# Altium footprint library SparkFun-DigitalIC.PCBLIB: 112 footprints (part 3 of 7)
Each footprint in its own frame and in the unit in brackets; x right, y up, seen from the top. Pads: shape width x height; smd on the part's side, far side on the other; paste and mask are expansions set on the pad; w line width, h text height; cw(c..) or ccw(c..) is an arc to the next point about the centre after c.
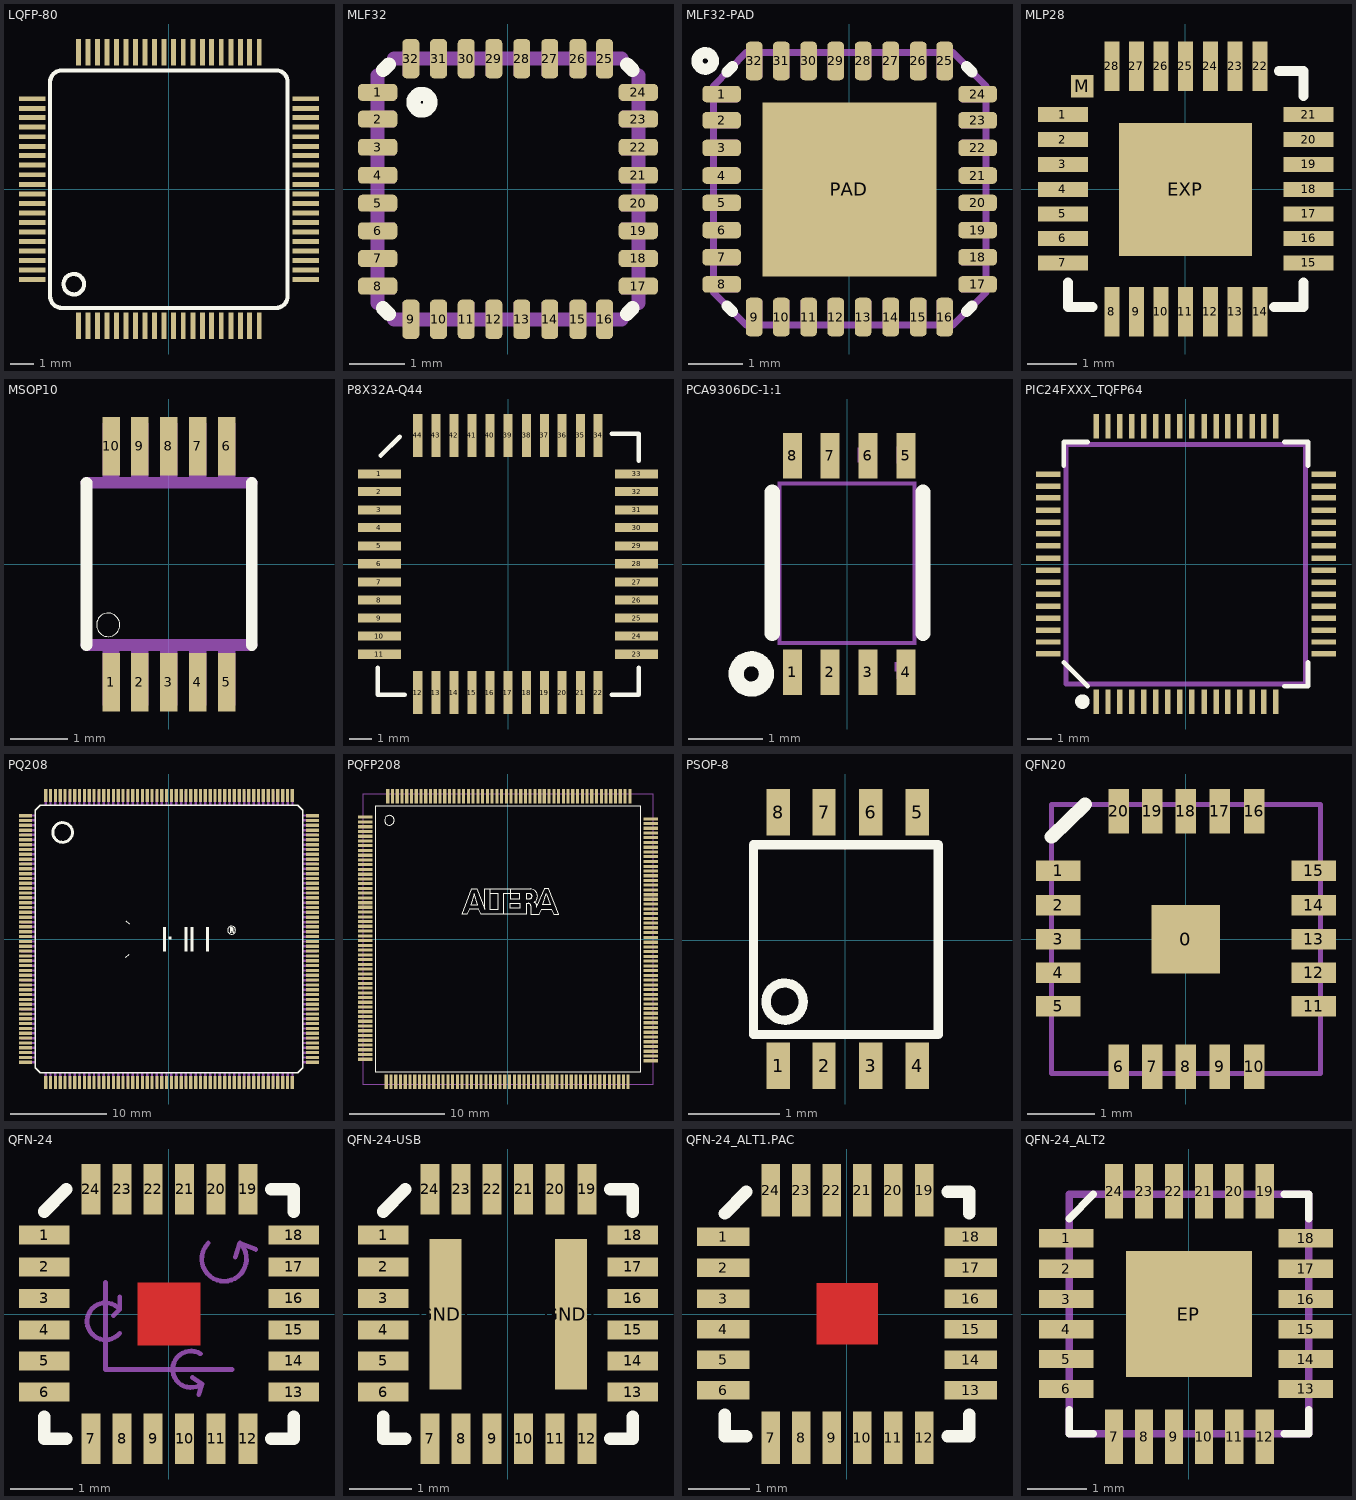
[diagram p2: the footprints below, top view; thin cyan lines are the x and y axes]

## LQFP-80 [mil]
pads (80):
  rect 8x44 smd: 1(-149.61,-226.38) 2(-133.86,-226.38) 3(-118.11,-226.38) 4(-102.36,-226.38) 5(-86.61,-226.38) 6(-70.87,-226.38) 7(-55.12,-226.38) 8(-39.37,-226.38) 9(-23.62,-226.38) 10(-7.87,-226.38) 11(8,-226.38) 12(24,-226.38) 13(40,-226.38) 14(56,-226.38) 15(71,-226.38) 16(87,-226.38) 17(103,-226.38) 18(119,-226.38) 19(134,-226.38) 20(150,-226.38) 41(150,227) 42(134,227) 43(119,227) 44(103,227) 45(87,227) 46(71,227) 47(56,227) 48(40,227) 49(24,227) 50(8,227) 51(-7.87,227) 52(-23.62,227) 53(-39.37,227) 54(-55.12,227) 55(-70.87,227) 56(-86.61,227) 57(-102.36,227) 58(-118.11,227) 59(-133.86,227) 60(-149.61,227)
  rect 44x8 smd: 21(227,-149.61) 22(227,-133.86) 23(227,-118.11) 24(227,-102.36) 25(227,-86.61) 26(227,-70.87) 27(227,-55.12) 28(227,-39.37) 29(227,-23.62) 30(227,-7.87) 31(227,8) 32(227,24) 33(227,40) 34(227,56) 35(227,71) 36(227,87) 37(227,103) 38(227,119) 39(227,134) 40(227,150) 61(-226.38,150) 62(-226.38,134) 63(-226.38,119) 64(-226.38,103) 65(-226.38,87) 66(-226.38,71) 67(-226.38,56) 68(-226.38,40) 69(-226.38,24) 70(-226.38,8) 71(-226.38,-7.87) 72(-226.38,-23.62) 73(-226.38,-39.37) 74(-226.38,-55.12) 75(-226.38,-70.87) 76(-226.38,-86.61) 77(-226.38,-102.36) 78(-226.38,-118.11) 79(-226.38,-133.86) 80(-226.38,-149.61)
Top Overlay:
  circle w7: c-157.48,-157.48 r17
  lines w7: -196.85,-177.17 -196.85,178 cw(c-177.51,177.66) -177.17,197 178,197 cw(c178,178) 197,178 197,-177.17 cw(c177.66,-177.51) 178,-196.85 -177.17,-196.85 cw(c-177.17,-177.17) -196.85,-177.17
Mechanical 2:
  text ">Name" at -100,-150 h24.8
Mechanical 4:
  text ">Value" at -50,-150 h24.8
Mechanical 16:
  rectangle: -236.22,5 -212.6,12
  rectangle: -236.22,-11.02 -212.6,-4.72
  rectangle: -236.22,-26.77 -212.6,-20.47
  rectangle: -236.22,-42.52 -212.6,-36.22
  rectangle: -236.22,-58.27 -212.6,-51.97
  rectangle: -236.22,-74.02 -212.6,-67.72
  rectangle: -236.22,-89.76 -212.6,-83.46
  rectangle: -236.22,-105.51 -212.6,-99.21
  rectangle: -236.22,-121.26 -212.6,-114.96
  rectangle: -236.22,-137.01 -212.6,-130.71
  rectangle: -236.22,-152.76 -212.6,-146.46
  rectangle: -236.22,21 -212.6,27
  rectangle: -236.22,37 -212.6,43
  rectangle: -236.22,52 -212.6,59
  rectangle: -236.22,68 -212.6,75
  rectangle: -236.22,84 -212.6,90
  rectangle: -236.22,100 -212.6,106
  rectangle: -236.22,115 -212.6,122
  rectangle: -236.22,131 -212.6,138
  rectangle: -236.22,147 -212.6,153
  region: 5.03,236.97 5.03,213.03 11.03,213.03 11.03,236.97
  region: -10.84,236.84 -10.84,213.16 -4.84,213.16 -4.84,236.84
  region: -26.62,236.81 -26.62,213.19 -20.62,213.19 -20.62,236.81
  region: -42.37,236.81 -42.37,213.19 -36.37,213.19 -36.37,236.81
  region: -58.12,236.81 -58.12,213.19 -52.12,213.19 -52.12,236.81
  region: -73.87,236.81 -73.87,213.19 -67.87,213.19 -67.87,236.81
  region: -89.61,236.81 -89.61,213.19 -83.61,213.19 -83.61,236.81
  region: -105.36,236.81 -105.36,213.19 -99.36,213.19 -99.36,236.81
  region: -121.11,236.81 -121.11,213.19 -115.11,213.19 -115.11,236.81
  region: -136.86,236.81 -136.86,213.19 -130.86,213.19 -130.86,236.81
  region: -152.61,236.81 -152.61,213.19 -146.61,213.19 -146.61,236.81
  region: 21,237 21,213 27,213 27,237
  region: 37,237 37,213 43,213 43,237
  region: 52.5,236.5 52.5,213.5 58.5,213.5 58.5,236.5
  region: 68.5,236.5 68.5,213.5 74.5,213.5 74.5,236.5
  region: 84,237 84,213 90,213 90,237
  region: 100,237 100,213 106,213 106,237
  region: 115.5,236.5 115.5,213.5 121.5,213.5 121.5,236.5
  region: 131.5,236.5 131.5,213.5 137.5,213.5 137.5,236.5
  region: 147,237 147,213 153,213 153,237
  region: 237,-4.72 213,-4.72 213,-11.02 237,-11.02
  region: 237,12 213,12 213,5 237,5
  region: 237,27 213,27 213,21 237,21
  region: 237,43 213,43 213,37 237,37
  region: 237,59 213,59 213,52 237,52
  region: 237,75 213,75 213,68 237,68
  region: 237,90 213,90 213,84 237,84
  region: 237,106 213,106 213,100 237,100
  region: 237,122 213,122 213,115 237,115
  region: 237,138 213,138 213,131 237,131
  region: 237,153 213,153 213,147 237,147
  region: 237,-20.47 213,-20.47 213,-26.77 237,-26.77
  region: 237,-36.22 213,-36.22 213,-42.52 237,-42.52
  region: 237,-51.97 213,-51.97 213,-58.27 237,-58.27
  region: 237,-67.72 213,-67.72 213,-74.02 237,-74.02
  region: 237,-83.46 213,-83.46 213,-89.76 237,-89.76
  region: 237,-99.21 213,-99.21 213,-105.51 237,-105.51
  region: 237,-114.96 213,-114.96 213,-121.26 237,-121.26
  region: 237,-130.71 213,-130.71 213,-137.01 237,-137.01
  region: 237,-146.46 213,-146.46 213,-152.76 237,-152.76
  region: -4.69,-236.25 -4.69,-212.57 -10.99,-212.57 -10.99,-236.25
  region: 11.18,-236.38 11.18,-212.44 4.88,-212.44 4.88,-236.38
  region: 27.15,-236.41 27.15,-212.41 20.85,-212.41 20.85,-236.41
  region: 43.15,-236.41 43.15,-212.41 36.85,-212.41 36.85,-236.41
  region: 58.65,-235.91 58.65,-212.91 52.35,-212.91 52.35,-235.91
  region: 74.65,-235.91 74.65,-212.91 68.35,-212.91 68.35,-235.91
  region: 90.15,-236.41 90.15,-212.41 83.85,-212.41 83.85,-236.41
  region: 106.15,-236.41 106.15,-212.41 99.85,-212.41 99.85,-236.41
  region: 121.65,-235.91 121.65,-212.91 115.35,-212.91 115.35,-235.91
  region: 137.65,-235.91 137.65,-212.91 131.35,-212.91 131.35,-235.91
  region: 153.15,-236.41 153.15,-212.41 146.85,-212.41 146.85,-236.41
  region: -20.47,-236.22 -20.47,-212.6 -26.77,-212.6 -26.77,-236.22
  region: -36.22,-236.22 -36.22,-212.6 -42.52,-212.6 -42.52,-236.22
  region: -51.97,-236.22 -51.97,-212.6 -58.27,-212.6 -58.27,-236.22
  region: -67.72,-236.22 -67.72,-212.6 -74.02,-212.6 -74.02,-236.22
  region: -83.46,-236.22 -83.46,-212.6 -89.76,-212.6 -89.76,-236.22
  region: -99.21,-236.22 -99.21,-212.6 -105.51,-212.6 -105.51,-236.22
  region: -114.96,-236.22 -114.96,-212.6 -121.26,-212.6 -121.26,-236.22
  region: -130.71,-236.22 -130.71,-212.6 -137.01,-212.6 -137.01,-236.22
  region: -146.46,-236.22 -146.46,-212.6 -152.76,-212.6 -152.76,-236.22

## MLF32 [mil]
pads (32):
  rrect50% 28x12 smd: 1(-92.52,69) 2(-92.52,50) 3(-92.52,30) 4(-92.52,10) 5(-92.52,-9.84) 6(-92.52,-29.53) 7(-92.52,-49.21) 8(-92.52,-68.9) 17(93,-68.9) 18(93,-49.21) 19(93,-29.53) 20(93,-9.84) 21(93,10) 22(93,30) 23(93,50) 24(93,69)
  rrect50% 12x28 smd: 9(-68.9,-92.52) 10(-49.21,-92.52) 11(-29.53,-92.52) 12(-9.84,-92.52) 13(10,-92.52) 14(30,-92.52) 15(50,-92.52) 16(69,-92.52) 25(69,93) 26(50,93) 27(30,93) 28(10,93) 29(-9.84,93) 30(-29.53,93) 31(-49.21,93) 32(-68.9,93)
Top Overlay:
  circle w10: c-61.02,62 r6
  lines w10: -88.58,-84.65 -84.65,-88.58 ; -88.58,85 -84.65,89 ; 85,-88.58 89,-84.65 ; 85,89 89,85
Mechanical 2:
  text ">NAME" at -100,125 h77.5
Mechanical 4:
  text ">VALUE" at -100,-175 h77.5
Mechanical 16:
  rectangle: -98.43,63 -80.71,75
  rectangle: -98.43,44 -80.71,56
  rectangle: -98.43,24 -80.71,36
  rectangle: -98.43,4 -80.71,16
  rectangle: -98.43,-15.75 -80.71,-3.94
  rectangle: -98.43,-35.43 -80.71,-23.62
  rectangle: -98.43,-55.12 -80.71,-43.31
  rectangle: -98.43,-74.8 -80.71,-62.99
  rectangle: -74.8,-98.43 -62.99,-80.71
  rectangle: -55.12,-98.43 -43.31,-80.71
  rectangle: -35.43,-98.43 -23.62,-80.71
  rectangle: -15.75,-98.43 -3.94,-80.71
  rectangle: 4,-98.43 16,-80.71
  rectangle: 24,-98.43 36,-80.71
  rectangle: 44,-98.43 56,-80.71
  rectangle: 63,-98.43 75,-80.71
  rectangle: 81,-74.8 99,-62.99
  rectangle: 81,-55.12 99,-43.31
  rectangle: 81,-35.43 99,-23.62
  rectangle: 81,-15.75 99,-3.94
  rectangle: 81,4 99,16
  rectangle: 81,24 99,36
  rectangle: 81,44 99,56
  rectangle: 81,63 99,75
  rectangle: 63,81 75,99
  rectangle: 44,81 56,99
  rectangle: 24,81 36,99
  rectangle: 4,81 16,99
  rectangle: -15.75,81 -3.94,99
  rectangle: -35.43,81 -23.62,99
  rectangle: -55.12,81 -43.31,99
  rectangle: -74.8,81 -62.99,99
  lines w10: -92.52,-80.71 -92.52,81 ; -80.71,-92.52 81,-92.52 ; -80.71,93 81,93 ; 93,-80.71 93,81

## MLF32-PAD [mil]
pads (33):
  rrect50% 28x12 smd: 1(-92.52,69) 2(-92.52,50) 3(-92.52,30) 4(-92.52,10) 5(-92.52,-9.84) 6(-92.52,-29.53) 7(-92.52,-49.21) 8(-92.52,-68.9) 17(93,-68.9) 18(93,-49.21) 19(93,-29.53) 20(93,-9.84) 21(93,10) 22(93,30) 23(93,50) 24(93,69)
  rrect50% 12x28 smd: 9(-68.9,-92.52) 10(-49.21,-92.52) 11(-29.53,-92.52) 12(-9.84,-92.52) 13(10,-92.52) 14(30,-92.52) 15(50,-92.52) 16(69,-92.52) 25(69,93) 26(50,93) 27(30,93) 28(10,93) 29(-9.84,93) 30(-29.53,93) 31(-49.21,93) 32(-68.9,93)
  rect 126x126 smd: PAD(0,0)
Top Overlay:
  circle w8: c-104.33,93 r6
  lines w8: -88.58,-84.65 -84.65,-88.58 ; -88.58,85 -84.65,89 ; 85,-88.58 89,-84.65 ; 85,89 89,85
Top Paste:
  rectangle: -47.24,10 -9.84,48
  rectangle: 10,10 48,48
  rectangle: 10,-47.24 48,-9.84
  rectangle: -47.24,-47.24 -9.84,-9.84
Mechanical 2:
  text ">NAME" at -100,125 h77.5
Mechanical 4:
  text ">VALUE" at -100,-175 h77.5
Mechanical 16:
  rectangle: -98.43,63 -80.71,75
  rectangle: -98.43,44 -80.71,56
  rectangle: -98.43,24 -80.71,36
  rectangle: -98.43,4 -80.71,16
  rectangle: -98.43,-15.75 -80.71,-3.94
  rectangle: -98.43,-35.43 -80.71,-23.62
  rectangle: -98.43,-55.12 -80.71,-43.31
  rectangle: -98.43,-74.8 -80.71,-62.99
  rectangle: -74.8,-98.43 -62.99,-80.71
  rectangle: -55.12,-98.43 -43.31,-80.71
  rectangle: -35.43,-98.43 -23.62,-80.71
  rectangle: -15.75,-98.43 -3.94,-80.71
  rectangle: 4,-98.43 16,-80.71
  rectangle: 24,-98.43 36,-80.71
  rectangle: 44,-98.43 56,-80.71
  rectangle: 63,-98.43 75,-80.71
  rectangle: 81,-74.8 99,-62.99
  rectangle: 81,-55.12 99,-43.31
  rectangle: 81,-35.43 99,-23.62
  rectangle: 81,-15.75 99,-3.94
  rectangle: 81,4 99,16
  rectangle: 81,24 99,36
  rectangle: 81,44 99,56
  rectangle: 81,63 99,75
  rectangle: 63,81 75,99
  rectangle: 44,81 56,99
  rectangle: 24,81 36,99
  rectangle: 4,81 16,99
  rectangle: -15.75,81 -3.94,99
  rectangle: -35.43,81 -23.62,99
  rectangle: -55.12,81 -43.31,99
  rectangle: -74.8,81 -62.99,99
  lines w5: -98.43,-74.8 -74.8,-98.43 75,-98.43 99,-74.8 99,75 75,99 -74.8,99 -98.43,75 -98.43,-74.8

## MLP28 [mil]
pads (30):
  rect 40x12 smd: 1(-98.43,60) 2(-98.43,40) 3(-98.43,20) 4(-98.43,0) 5(-98.43,-19.68) 6(-98.43,-39.37) 7(-98.43,-59.06) 15(99,-59.06) 16(99,-39.37) 17(99,-19.68) 18(99,0) 19(99,20) 20(99,40) 21(99,60)
  rect 12x40 smd: 8(-59.06,-98.43) 9(-39.37,-98.43) 10(-19.68,-98.43) 11(0,-98.43) 12(20,-98.43) 13(40,-98.43) 14(60,-98.43) 22(60,99) 23(40,99) 24(20,99) 25(0,99) 26(-19.68,99) 27(-39.37,99) 28(-59.06,99)
  rect 107x107 smd: EXP(0,0)
  rect 18x18 smd: M(-82.78,83)
Top Overlay:
  lines w8: -94.49,-74.8 -94.49,-94.49 -74.8,-94.49 ; 71,-94.49 95,-94.49 95,-74.8 ; 75,95 95,95 95,75
Top Paste:
  rectangle: -101.57,54 -79.53,65
  rectangle: -19.68,-19.68 20,20
  rectangle: -88.58,77 -76.77,89
  rectangle: -101.57,35 -79.53,45
  rectangle: -101.57,15 -79.53,25
  rectangle: -101.57,-5.12 -79.53,6
  rectangle: -101.57,-24.8 -79.53,-14.57
  rectangle: -101.57,-44.49 -79.53,-34.25
  rectangle: -101.57,-64.17 -79.53,-53.94
  region: 55,102 55,80 65,80 65,102
  region: 35,102 35,80 45,80 45,102
  region: 15,102 15,80 25,80 25,102
  region: -4.51,102.51 -4.51,79.49 5.49,79.49 5.49,102.51
  region: -24.69,102.02 -24.69,79.98 -14.69,79.98 -14.69,102.02
  region: -44.37,102.02 -44.37,79.98 -34.37,79.98 -34.37,102.02
  region: -64.06,102.02 -64.06,79.98 -54.06,79.98 -54.06,102.02
  region: -53.94,-101.57 -53.94,-79.53 -64.17,-79.53 -64.17,-101.57
  region: -34.25,-101.57 -34.25,-79.53 -44.49,-79.53 -44.49,-101.57
  region: -14.57,-101.57 -14.57,-79.53 -24.8,-79.53 -24.8,-101.57
  region: 5.61,-102.06 5.61,-79.04 -4.63,-79.04 -4.63,-102.06
  region: 25.12,-101.55 25.12,-79.55 14.88,-79.55 14.88,-101.55
  region: 45.12,-101.55 45.12,-79.55 34.88,-79.55 34.88,-101.55
  region: 65.12,-101.55 65.12,-79.55 54.88,-79.55 54.88,-101.55
  region: 102,-53.94 80,-53.94 80,-64.17 102,-64.17
  region: 102,-34.25 80,-34.25 80,-44.49 102,-44.49
  region: 102,-14.57 80,-14.57 80,-24.8 102,-24.8
  region: 102,6 80,6 80,-5.12 102,-5.12
  region: 102,25 80,25 80,15 102,15
  region: 102,45 80,45 80,35 102,35
  region: 102,65 80,65 80,54 102,54
Top Solder:
  rectangle: -120.08,52 -78.74,67
  rectangle: -92.62,73 -72.93,93
  rectangle: -120.08,32 -78.74,48
  rectangle: -59.06,-59.06 60,60
  rectangle: -120.08,12 -78.74,28
  rectangle: -120.08,-7.87 -78.74,8
  rectangle: -120.08,-27.56 -78.74,-11.81
  rectangle: -120.08,-47.24 -78.74,-31.5
  rectangle: -120.08,-66.93 -78.74,-51.18
  region: 51.5,120.5 51.5,79.5 67.5,79.5 67.5,120.5
  region: 32,121 32,79 48,79 48,121
  region: 12.01,120.99 12.01,79.01 28.01,79.01 28.01,120.99
  region: -7.83,120.83 -7.83,79.17 8.17,79.17 8.17,120.83
  region: -27.68,120.68 -27.68,79.32 -11.68,79.32 -11.68,120.68
  region: -47.37,120.67 -47.37,79.33 -31.37,79.33 -31.37,120.67
  region: -67.06,120.67 -67.06,79.33 -51.06,79.33 -51.06,120.67
  region: -51.18,-120.08 -51.18,-78.74 -66.93,-78.74 -66.93,-120.08
  region: -31.5,-120.08 -31.5,-78.74 -47.24,-78.74 -47.24,-120.08
  region: -11.8,-120.09 -11.8,-78.73 -27.55,-78.73 -27.55,-120.09
  region: 8.04,-120.24 8.04,-78.57 -7.71,-78.57 -7.71,-120.24
  region: 27.88,-120.4 27.88,-78.42 12.13,-78.42 12.13,-120.4
  region: 47.87,-120.41 47.87,-78.41 32.13,-78.41 32.13,-120.41
  region: 67.37,-119.91 67.37,-78.91 51.63,-78.91 51.63,-119.91
  region: 121,-51.18 79,-51.18 79,-66.93 121,-66.93
  region: 121,-31.5 79,-31.5 79,-47.24 121,-47.24
  region: 121,-11.81 79,-11.81 79,-27.56 121,-27.56
  region: 121,8 79,8 79,-7.87 121,-7.87
  region: 121,28 79,28 79,12 121,12
  region: 121,48 79,48 79,32 121,32
  region: 121,67 79,67 79,52 121,52
Mechanical 2:
  text ">NAME" at -50,125 h24.8
Mechanical 4:
  text ">VALUE" at -46.06,-148.62 h24.8

## MSOP10 [mil]
pads (10):
  rect 12x40 smd: 1(-39.37,-80.71) 2(-19.68,-80.71) 3(0,-80.71) 4(20,-80.71) 5(40,-80.71) 6(40,81) 7(20,81) 8(0,81) 9(-19.68,81) 10(-39.37,81)
Top Overlay:
  circle w0: c-41.34,-41.34 r8
  lines w8: -56.1,-55.12 -56.1,56 ; 57,-55.12 57,56
Top Paste:
  rectangle: -44.29,-98.43 -34.45,-63.98
  rectangle: -24.61,-98.43 -14.76,-63.98
  rectangle: -4.92,-98.43 5,-63.98
  rectangle: 15,-98.43 25,-63.98
  rectangle: 35,-98.43 45,-63.98
  region: 45,99 35,99 35,64 45,64
  region: 25,99 15,99 15,64 25,64
  region: 5,99 -4.92,99 -4.92,64 5,64
  region: -14.76,99 -24.61,99 -24.61,64 -14.76,64
  region: -34.45,99 -44.29,99 -44.29,64 -34.45,64
Top Solder:
  rectangle: -47.24,-102.36 -31.5,-59.06
  rectangle: -27.56,-102.36 -11.81,-59.06
  rectangle: -7.87,-102.36 8,-59.06
  rectangle: 12,-102.36 28,-59.06
  rectangle: 32,-102.36 48,-59.06
  region: 48,103 32,103 32,60 48,60
  region: 28,103 12,103 12,60 28,60
  region: 8,103 -7.87,103 -7.87,60 8,60
  region: -11.81,103 -27.56,103 -27.56,60 -11.81,60
  region: -31.5,103 -47.24,103 -47.24,60 -31.5,60
Mechanical 2:
  text ">NAME" at -77.72,-59.21 h62
Mechanical 4:
  text ">VALUE" at 116,-63.46 h62
Mechanical 16:
  rectangle: -45.28,-96.46 -33.46,-58.07
  rectangle: -25.59,-96.46 -13.78,-58.07
  rectangle: -5.91,-96.46 6,-58.07
  rectangle: 14,-96.46 26,-58.07
  rectangle: 34,-96.46 46,-58.07
  region: 46,97 34,97 34,59 46,59
  region: 26,97 14,97 14,59 26,59
  region: 6,97 -5.91,97 -5.91,59 6,59
  region: -13.78,97 -25.59,97 -25.59,59 -13.78,59
  region: -33.46,97 -45.28,97 -45.28,59 -33.46,59
  lines w8: -56.1,-55.12 57,-55.12 ; -56.1,56 57,56

## P8X32A-Q44 [mil]
pads (44):
  rect 75x16 smd: 1(-224.9,158) 2(-224.9,127) 3(-224.9,95) 4(-224.9,64) 5(-224.9,32) 6(-224.9,1) 7(-224.9,-31) 8(-224.9,-62.5) 9(-224.9,-94) 10(-224.9,-125.49) 11(-224.9,-156.99) 23(224,-156.99) 24(224,-125.49) 25(224,-94) 26(224,-62.5) 27(224,-31) 28(224,1) 29(224,32) 30(224,64) 31(224,95) 32(224,127) 33(224,158)
  rect 16x75 smd: 12(-157.97,-223.92) 13(-126.48,-223.92) 14(-94.98,-223.92) 15(-63.48,-223.92) 16(-31.99,-223.92) 17(-0.49,-223.92) 18(32,-223.92) 19(63,-223.92) 20(94,-223.92) 21(126,-223.92) 22(157,-223.92) 34(157,225) 35(126,225) 36(94,225) 37(63,225) 38(32,225) 39(-0.49,225) 40(-31.99,225) 41(-63.48,225) 42(-94.98,225) 43(-126.48,225) 44(-157.97,225)
Top Overlay:
  lines w8: -228,-181 -228,-228 -181,-228 ; -222.99,190 -189.76,223 ; 181,-228 228,-228 228,-181 ; 181,228 228,228 228,181
Mechanical 2:
  text ">NAME" at -150.1,88 h24.8
Mechanical 4:
  text ">VALUE" at -150.1,42 h24.8

## PCA9306DC-1:1 [mil]
pads (8):
  rect 10x24 smd: 1(-28.74,-56.94) 2(-9.06,-56.94) 3(11,-56.94) 4(31,-56.94) 5(31,57) 6(11,57) 7(-9.06,57) 8(-28.74,57)
Top Overlay:
  circle w8: c-50.39,-57.87 r8
  lines w8: -39.37,-36.61 -39.37,38 ; 40,-36.61 40,38
Mechanical 2:
  text ">NAME" at -47.24,83 h31
Mechanical 4:
  text ">VALUE" at -47.24,-102.36 h31
Mechanical 16:
  circle w3: c-50.39,-57.87 r8
Mech81:
  drawing of 210 lines, arcs and shapes, not listed

## PIC24FXXX_TQFP64 [mil]
pads (64):
  rect 9x40 smd: 1(-147.64,-226.38) 2(-127.95,-226.38) 3(-108.27,-226.38) 4(-88.58,-226.38) 5(-68.9,-226.38) 6(-49.21,-226.38) 7(-29.53,-226.38) 8(-9.84,-226.38) 9(10,-226.38) 10(30,-226.38) 11(50,-226.38) 12(69,-226.38) 13(89,-226.38) 14(109,-226.38) 15(128,-226.38) 16(148,-226.38) 33(148,227) 34(128,227) 35(109,227) 36(89,227) 37(69,227) 38(50,227) 39(30,227) 40(10,227) 41(-9.84,227) 42(-29.53,227) 43(-49.21,227) 44(-68.9,227) 45(-88.58,227) 46(-108.27,227) 47(-127.95,227) 48(-147.64,227)
  rect 40x9 smd: 17(227,-147.64) 18(227,-127.95) 19(227,-108.27) 20(227,-88.58) 21(227,-68.9) 22(227,-49.21) 23(227,-29.53) 24(227,-9.84) 25(227,10) 26(227,30) 27(227,50) 28(227,69) 29(227,89) 30(227,109) 31(227,128) 32(227,148) 49(-226.38,148) 50(-226.38,128) 51(-226.38,109) 52(-226.38,89) 53(-226.38,69) 54(-226.38,50) 55(-226.38,30) 56(-226.38,10) 57(-226.38,-9.84) 58(-226.38,-29.53) 59(-226.38,-49.21) 60(-226.38,-68.9) 61(-226.38,-88.58) 62(-226.38,-108.27) 63(-226.38,-127.95) 64(-226.38,-147.64)
Top Overlay:
  circle w16: c-170,-226 r4
  lines w8: -200.79,-161.42 -161.42,-200.79 ; -200.79,162 -200.79,201 -161.42,201 ; 162,-200.79 201,-200.79 201,-161.42 ; 162,201 201,201 201,162
Mechanical 2:
  text ">NAME" at -118.11,119 h24.8
Mechanical 4:
  text ">VALUE" at -118.11,-118.11 h24.8
Mechanical 16:
  lines w8: -196.85,-196.85 197,-196.85 197,197 -196.85,197 -196.85,-196.85

## PQ208 [mil]
pads (208):
  rect 52x13 smd: 1(-584.65,502) 2(-584.65,483) 3(-584.65,463) 4(-584.65,443) 5(-584.65,424) 6(-584.65,404) 7(-584.65,384) 8(-584.65,365) 9(-584.65,345) 10(-584.65,325) 11(-584.65,306) 12(-584.65,286) 13(-584.65,266) 14(-584.65,247) 15(-584.65,227) 16(-584.65,207) 17(-584.65,188) 18(-584.65,168) 19(-584.65,148) 20(-584.65,128) 21(-584.65,109) 22(-584.65,89) 23(-584.65,69) 24(-584.65,50) 25(-584.65,30) 26(-584.65,10) 27(-584.65,-9.84) 28(-584.65,-29.53) 29(-584.65,-49.21) 30(-584.65,-68.9) 31(-584.65,-88.58) 32(-584.65,-108.27) 33(-584.65,-127.95) 34(-584.65,-147.64) 35(-584.65,-167.32) 36(-584.65,-187.01) 37(-584.65,-206.69) 38(-584.65,-226.38) 39(-584.65,-246.06) 40(-584.65,-265.75) 41(-584.65,-285.43) 42(-584.65,-305.12) 43(-584.65,-324.8) 44(-584.65,-344.49) 45(-584.65,-364.17) 46(-584.65,-383.86) 47(-584.65,-403.54) 48(-584.65,-423.23) 49(-584.65,-442.91) 50(-584.65,-462.6) 51(-584.65,-482.28) 52(-584.65,-501.97) 105(585,-501.97) 106(585,-482.28) 107(585,-462.6) 108(585,-442.91) 109(585,-423.23) 110(585,-403.54) 111(585,-383.86) 112(585,-364.17) 113(585,-344.49) 114(585,-324.8) 115(585,-305.12) 116(585,-285.43) 117(585,-265.75) 118(585,-246.06) 119(585,-226.38) 120(585,-206.69) 121(585,-187.01) 122(585,-167.32) 123(585,-147.64) 124(585,-127.95) 125(585,-108.27) 126(585,-88.58) 127(585,-68.9) 128(585,-49.21) 129(585,-29.53) 130(585,-9.84) 131(585,10) 132(585,30) 133(585,50) 134(585,69) 135(585,89) 136(585,109) 137(585,128) 138(585,148) 139(585,168) 140(585,188) 141(585,207) 142(585,227) 143(585,247) 144(585,266) 145(585,286) 146(585,306) 147(585,325) 148(585,345) 149(585,365) 150(585,384) 151(585,404) 152(585,424) 153(585,443) 154(585,463) 155(585,483) 156(585,502)
  rect 13x52 smd: 53(-501.97,-584.65) 54(-482.28,-584.65) 55(-462.6,-584.65) 56(-442.91,-584.65) 57(-423.23,-584.65) 58(-403.54,-584.65) 59(-383.86,-584.65) 60(-364.17,-584.65) 61(-344.49,-584.65) 62(-324.8,-584.65) 63(-305.12,-584.65) 64(-285.43,-584.65) 65(-265.75,-584.65) 66(-246.06,-584.65) 67(-226.38,-584.65) 68(-206.69,-584.65) 69(-187.01,-584.65) 70(-167.32,-584.65) 71(-147.64,-584.65) 72(-127.95,-584.65) 73(-108.27,-584.65) 74(-88.58,-584.65) 75(-68.9,-584.65) 76(-49.21,-584.65) 77(-29.53,-584.65) 78(-9.84,-584.65) 79(10,-584.65) 80(30,-584.65) 81(50,-584.65) 82(69,-584.65) 83(89,-584.65) 84(109,-584.65) 85(128,-584.65) 86(148,-584.65) 87(168,-584.65) 88(188,-584.65) 89(207,-584.65) 90(227,-584.65) 91(247,-584.65) 92(266,-584.65) 93(286,-584.65) 94(306,-584.65) 95(325,-584.65) 96(345,-584.65) 97(365,-584.65) 98(384,-584.65) 99(404,-584.65) 100(424,-584.65) 101(443,-584.65) 102(463,-584.65) 103(483,-584.65) 104(502,-584.65) 157(502,585) 158(483,585) 159(463,585) 160(443,585) 161(424,585) 162(404,585) 163(384,585) 164(365,585) 165(345,585) 166(325,585) 167(306,585) 168(286,585) 169(266,585) 170(247,585) 171(227,585) 172(207,585) 173(188,585) 174(168,585) 175(148,585) 176(128,585) 177(109,585) 178(89,585) 179(69,585) 180(50,585) 181(30,585) 182(10,585) 183(-9.84,585) 184(-29.53,585) 185(-49.21,585) 186(-68.9,585) 187(-88.58,585) 188(-108.27,585) 189(-127.95,585) 190(-147.64,585) 191(-167.32,585) 192(-187.01,585) 193(-206.69,585) 194(-226.38,585) 195(-246.06,585) 196(-265.75,585) 197(-285.43,585) 198(-305.12,585) 199(-324.8,585) 200(-344.49,585) 201(-364.17,585) 202(-383.86,585) 203(-403.54,585) 204(-423.23,585) 205(-442.91,585) 206(-462.6,585) 207(-482.28,585) 208(-501.97,585)
Top Overlay:
  circle w12: c-433.07,434 r40
  circle w4: c255,36 r16
  rectangle: -25,-50 -12.5,50
  rectangle: 63,-50 75,50
  rectangle: 88,-50 100,50
  rectangle: 150,-50 163,50
  rectangle: 249,27 252,44
  rectangle: 251,42 258,44
  rectangle: 251,34 259,37
  region: 0,0 10,0 10,10 0,10
  region: 0,0 10,0 10,10 0,10
  region: 0,0 10,0 10,10 0,10
  region: 0,0 10,0 10,10 0,10
  region: 0,0 10,0 10,10 0,10
  region: 0,0 10,0 10,10 0,10
  region: 0,0 10,0 10,10 0,10
  region: 0,0 10,0 10,10 0,10
  region: 0,0 10,0 10,10 0,10
  region: 0,0 10,0 10,10 0,10
  lines w2: 249,28 253,28 253,35 257,35 cw(c256.33,33.42) 258,33 259,28 263,28 262,34 ccw(c259.16,32.99) 259,36 ccw(c257.15,40.31) 257,45 249,45 249,28 ; 253,38 257,38 ccw(c256.5,40) 256,42 253,42 253,38
  lines w3: -175,-75 -162.5,-62.5 ; -175,75 -162.5,63
  lines w6: 545,521 545,515 ; 545,515 545,-524.41 525,-544.09 -524.41,-544.09 -544.09,-524.41 -544.09,525 -524.41,545 525,545 545,525 545,515
Top Paste:
  drawing of 208 lines, arcs and shapes, not listed
Mechanical 2:
  text ">NAME" at -150,375 h108.5
Mechanical 4:
  text ">VALUE" at -150,-400 h108.5
Mechanical 16:
  drawing of 208 lines, arcs and shapes, not listed

## PQFP208 [mil]
pads (208):
  rect 60x13 smd: 1(-592.52,506) 2(-592.52,486) 3(-592.52,466) 4(-592.52,447) 5(-592.52,427) 6(-592.52,407) 7(-592.52,388) 8(-592.52,368) 9(-592.52,348) 10(-592.52,328) 11(-592.52,309) 12(-592.52,289) 13(-592.52,269) 14(-592.52,250) 15(-592.52,230) 16(-592.52,210) 17(-592.52,191) 18(-592.52,171) 19(-592.52,151) 20(-592.52,132) 21(-592.52,112) 22(-592.52,92) 23(-592.52,73) 24(-592.52,53) 25(-592.52,33) 26(-592.52,13) 27(-592.52,-6.69) 28(-592.52,-26.38) 29(-592.52,-46.06) 30(-592.52,-65.75) 31(-592.52,-85.43) 32(-592.52,-105.12) 33(-592.52,-124.8) 34(-592.52,-144.49) 35(-592.52,-164.17) 36(-592.52,-183.86) 37(-592.52,-203.54) 38(-592.52,-223.23) 39(-592.52,-242.91) 40(-592.52,-262.6) 41(-592.52,-282.28) 42(-592.52,-301.97) 43(-592.52,-321.65) 44(-592.52,-341.34) 45(-592.52,-361.02) 46(-592.52,-380.71) 47(-592.52,-400.39) 48(-592.52,-420.08) 49(-592.52,-439.76) 50(-592.52,-459.45) 51(-592.13,-479.13) 52(-592.52,-498.82) 105(593,-505.12) 106(593,-485.43) 107(593,-465.75) 108(593,-446.06) 109(593,-426.38) 110(593,-406.69) 111(593,-387.01) 112(593,-367.32) 113(593,-347.64) 114(593,-327.95) 115(593,-308.27) 116(593,-288.58) 117(593,-268.9) 118(593,-249.21) 119(593,-229.53) 120(593,-209.84) 121(593,-190.16) 122(593,-170.47) 123(593,-150.79) 124(593,-131.1) 125(593,-111.42) 126(593,-91.73) 127(593,-72.05) 128(593,-52.36) 129(593,-32.68) 130(593,-12.99) 131(593,7) 132(593,27) 133(593,47) 134(593,66) 135(593,86) 136(593,106) 137(593,125) 138(593,145) 139(593,165) 140(593,184) 141(593,204) 142(593,224) 143(593,243) 144(593,263) 145(593,283) 146(593,302) 147(593,322) 148(593,342) 149(593,362) 150(593,381) 151(593,401) 152(593,421) 153(593,440) 154(593,460) 155(593,480) 156(593,499)
  rect 13x60 smd: 53(-505.12,-592.52) 54(-485.43,-592.52) 55(-465.75,-592.52) 56(-446.06,-592.52) 57(-426.38,-592.52) 58(-406.69,-592.52) 59(-387.01,-592.52) 60(-367.32,-592.52) 61(-347.64,-592.52) 62(-327.95,-592.52) 63(-308.27,-592.52) 64(-288.58,-592.52) 65(-268.9,-592.52) 66(-249.21,-592.52) 67(-229.53,-592.52) 68(-209.84,-592.52) 69(-190.16,-592.52) 70(-170.47,-592.52) 71(-150.79,-592.52) 72(-131.1,-592.52) 73(-111.42,-592.52) 74(-91.73,-592.52) 75(-72.05,-592.52) 76(-52.36,-592.52) 77(-32.68,-592.52) 78(-12.99,-592.52) 79(7,-592.52) 80(27,-592.52) 81(47,-592.52) 82(66,-592.52) 83(86,-592.52) 84(106,-592.52) 85(125,-592.52) 86(145,-592.52) 87(165,-592.52) 88(184,-592.52) 89(204,-592.52) 90(224,-592.52) 91(243,-592.52) 92(263,-592.52) 93(283,-592.52) 94(302,-592.52) 95(322,-592.52) 96(342,-592.52) 97(362,-592.52) 98(381,-592.52) 99(401,-592.52) 100(421,-592.52) 101(440,-592.52) 102(460,-592.52) 103(480,-592.13) 104(499,-592.52) 157(506,593) 158(486,593) 159(466,593) 160(447,593) 161(427,593) 162(407,593) 163(388,593) 164(368,593) 165(348,593) 166(328,593) 167(309,593) 168(289,593) 169(269,593) 170(250,593) 171(230,593) 172(210,593) 173(191,593) 174(171,593) 175(151,593) 176(132,593) 177(112,593) 178(92,593) 179(73,593) 180(53,593) 181(33,593) 182(13,593) 183(-6.69,593) 184(-26.38,593) 185(-46.06,593) 186(-65.75,593) 187(-85.43,593) 188(-105.12,593) 189(-124.8,593) 190(-144.49,593) 191(-164.17,593) 192(-183.86,593) 193(-203.54,593) 194(-223.23,593) 195(-242.91,593) 196(-262.6,593) 197(-282.28,593) 198(-301.97,593) 199(-321.65,593) 200(-341.34,593) 201(-361.02,593) 202(-380.71,593) 203(-400.39,593) 204(-420.08,593) 205(-439.76,593) 206(-459.45,593) 207(-479.04,593) 208(-498.82,593)
Top Overlay:
  circle w5: c-492.13,493 r20
  lines w5: -15.31,103 75,103 75,148 85,148 cw(c85,138) 95,138 95,103 130,103 140,123 180,123 190,103 210,103 170,208 150,208 120,138 ; 120,133 ccw(c102.51,136.75) 110,153 ccw(c92.5,177.77) 95,208 10,208 ; -75.31,188 -75.31,208 ; -75.31,188 -75.31,123 -40.31,123 -40.31,188 -75.31,188 ; -75.31,208 -95.31,208 -95.31,123 -130.31,208 -150.31,208 -190.31,103 -170.31,103 -160.31,123 -120.31,123 -110.31,103 -20.32,103 -20.32,188 10,188 ; -75.31,208 10,208 ; 10,188 10,208 ; 10,188 10,168 50,168 50,188 10,188 ; -551.18,-551.18 552,-551.18 552,552 -551.18,552 -551.18,-551.18 ; -155.31,143 -140.31,188 -125.31,143 -155.31,143 ; 10,128 50,128 50,148 10,148 10,128 ; 75,168 75,188 90,188 cw(c90,178) 90,168 75,168 ; 145,143 175,143 160,188 145,143
Top Paste:
  drawing of 208 lines, arcs and shapes, not listed
Mechanical 2:
  text ">Name" at -590.55,630 h77.5
Mechanical 4:
  text ">Value" at -610.24,-688.98 h77.5
Mechanical 16:
  lines w5: -602.36,-602.36 603,-602.36 603,602 -602.36,602 -602.36,-602.36
  text "PQFP208" at -137.8,20 h77.5

## PSOP-8 [mil]
pads (8):
  rect 10x20 smd: 1(-28.74,-53.94) 2(-9.06,-53.94) 3(11,-53.94) 4(31,-53.94) 5(31,55) 6(11,55) 7(-9.06,55) 8(-28.74,55)
Top Overlay:
  circle w4: c-25.98,-26.38 r8
  lines w4: -39.37,-40.55 40,-40.55 40,41 -39.37,41 -39.37,-40.55

## QFN20 [mil]
pads (21):
  rect 40x40 smd: 0(0,0)
  rect 26x12 smd: 1(-74.8,40) 2(-74.8,20) 3(-74.8,0) 4(-74.8,-19.68) 5(-74.8,-39.37) 11(75,-39.37) 12(75,-19.68) 13(75,0) 14(75,20) 15(75,40)
  rect 12x26 smd: 6(-39.37,-74.8) 7(-19.68,-74.8) 8(0,-74.8) 9(20,-74.8) 10(40,-74.8) 16(40,75) 17(20,75) 18(0,75) 19(-19.68,75) 20(-39.37,75)
Top Overlay:
  lines w8: -78.74,60 -59.06,79
Top Paste:
  rectangle: -9.84,-9.84 10,10
  rectangle: -82.5,36 -63.5,44
  rectangle: -82.5,16 -63.5,24
  rectangle: -82.5,-4 -63.5,4
  rectangle: -82.5,-23.5 -63.5,-15.5
  rectangle: -82.5,-43.5 -63.5,-35.5
  rectangle: 64,36 83,44
  rectangle: 64,16 83,24
  rectangle: 64,-4 83,4
  rectangle: 64,-23.5 83,-15.5
  rectangle: 64,-43.5 83,-35.5
  region: -35.5,63.5 -35.5,82.5 -43.5,82.5 -43.5,63.5
  region: -15.5,63.5 -15.5,82.5 -23.5,82.5 -23.5,63.5
  region: 4.25,63.25 4.25,82.75 -3.75,82.75 -3.75,63.25
  region: 23.5,63.5 23.5,82.5 15.5,82.5 15.5,63.5
  region: 43.5,63.5 43.5,82.5 35.5,82.5 35.5,63.5
  region: -35.5,-82.5 -35.5,-63.5 -43.5,-63.5 -43.5,-82.5
  region: -15.5,-82.5 -15.5,-63.5 -23.5,-63.5 -23.5,-82.5
  region: 4.25,-82.75 4.25,-63.25 -3.75,-63.25 -3.75,-82.75
  region: 23.5,-82.5 23.5,-63.5 15.5,-63.5 15.5,-82.5
  region: 43.5,-82.5 43.5,-63.5 35.5,-63.5 35.5,-82.5
Mechanical 2:
  text ">NAME" at -50,35 h24.8
Mechanical 4:
  text ">VALUE" at -50,-50 h24.8
Mechanical 16:
  lines w3: -78.74,-78.74 79,-78.74 79,79 -78.74,79 -78.74,-78.74

## QFN-24 [mil]
pads (24):
  rect 32x12 smd: 1(-78.74,50) 2(-78.74,30) 3(-78.74,10) 4(-78.74,-9.84) 5(-78.74,-29.53) 6(-78.74,-49.21) 13(79,-49.21) 14(79,-29.53) 15(79,-9.84) 16(79,10) 17(79,30) 18(79,50)
  rect 12x32 smd: 7(-49.21,-78.74) 8(-29.53,-78.74) 9(-9.84,-78.74) 10(10,-78.74) 11(30,-78.74) 12(50,-78.74) 19(50,79) 20(30,79) 21(10,79) 22(-9.84,79) 23(-29.53,79) 24(-49.21,79)
Top Layer:
  rectangle: -19.68,-19.68 20,20
Top Overlay:
  lines w8: -78.74,-64.96 -78.74,-78.74 -64.96,-78.74 ; -78.74,65 -64.96,79 ; 65,-78.74 79,-78.74 79,-64.96 ; 65,79 79,79 79,65
Top Solder:
  rectangle: -19.68,-19.68 20,20
Mechanical 2:
  text ">NAME" at -96.46,111 h77.5
Mechanical 4:
  text ">VALUE" at -98.43,-163.39 h77.5
Mechanical 16:
  lines w3: -40,20 -40,-35 40,-35 ; -35,-1 -31,3 ; -31,-12 cw(c-40,-4.5) -31,3 ; -31,11 -31,3 ; 15,-40 21,-44 ; 19,-51 21,-44 ; 20,-25 ccw(c14,-34.84) 21,-44 ; 25,45 ccw(c35,35) 45,45 ; 42,36 45,45 ; 55,41 45,45
  text "X" at 44,-47 h24.8
  text "Y" at -48,26 h24.8
  text "Z" at 0,34 h24.8

## QFN-24-USB [mil]
pads (26):
  rect 32x12 smd: 1(-78.74,50) 2(-78.74,30) 3(-78.74,10) 4(-78.74,-9.84) 5(-78.74,-29.53) 6(-78.74,-49.21) 13(79,-49.21) 14(79,-29.53) 15(79,-9.84) 16(79,10) 17(79,30) 18(79,50)
  rect 12x32 smd: 7(-49.21,-78.74) 8(-29.53,-78.74) 9(-9.84,-78.74) 10(10,-78.74) 11(30,-78.74) 12(50,-78.74) 19(50,79) 20(30,79) 21(10,79) 22(-9.84,79) 23(-29.53,79) 24(-49.21,79)
  rect 20x95 smd: GND1(-39.37,0) GND2(40,0)
Top Overlay:
  lines w8: -78.74,-64.96 -78.74,-78.74 -64.96,-78.74 ; -78.74,65 -64.96,79 ; 65,-78.74 79,-78.74 79,-64.96 ; 65,79 79,79 79,65
Mechanical 2:
  text ">NAME" at -96.46,111 h77.5
Mechanical 4:
  text ">VALUE" at -98.43,-163.39 h77.5

## QFN-24_ALT1.PAC [mil]
pads (24):
  rect 34x12 smd: 1(-79.74,50) 2(-79.74,30) 3(-79.74,10) 4(-79.74,-9.84) 5(-79.74,-29.53) 6(-79.74,-49.21) 13(80,-49.21) 14(80,-29.53) 15(80,-9.84) 16(80,10) 17(80,30) 18(80,50)
  rect 12x34 smd: 7(-49.21,-79.74) 8(-29.53,-79.74) 9(-9.84,-79.74) 10(10,-79.74) 11(30,-79.74) 12(50,-79.74) 19(50,80) 20(30,80) 21(10,80) 22(-9.84,80) 23(-29.53,80) 24(-49.21,80)
Top Layer:
  rectangle: -19.68,-19.68 20,20
Top Overlay:
  lines w8: -78.74,-64.96 -78.74,-78.74 -64.96,-78.74 ; -78.74,65 -64.96,79 ; 65,-78.74 79,-78.74 79,-64.96 ; 65,79 79,79 79,65
Top Paste:
  rectangle: -7,-7 7,7
  rectangle: -96.51,44 -66.25,56
  rectangle: -96.46,24 -66.2,36
  rectangle: -96.46,4 -66.2,16
  rectangle: -96.47,-15.73 -66.21,-3.91
  rectangle: -96.45,-35.46 -66.19,-23.64
  rectangle: -96.51,-55.06 -66.25,-43.24
  region: 97,-43.32 67,-43.32 67,-55.14 97,-55.14
  region: 97,-23.63 67,-23.63 67,-35.45 97,-35.45
  region: 97,-3.93 67,-3.93 67,-15.75 97,-15.75
  region: 97,16 67,16 67,4 97,4
  region: 97,36 67,36 67,24 97,24
  region: 97,56 67,56 67,44 97,44
  region: 44.09,-66.34 44.09,-96.34 55.91,-96.34 55.91,-66.34
  region: 24.09,-66.39 24.09,-96.39 35.91,-96.39 35.91,-66.39
  region: 3.92,-66.22 3.92,-96.56 15.74,-96.56 15.74,-66.22
  region: -15.42,-65.87 -15.42,-96.88 -3.6,-96.88 -3.6,-65.87
  region: -35.52,-66.27 -35.52,-96.53 -23.7,-96.53 -23.7,-66.27
  region: -55.12,-66.21 -55.12,-96.47 -43.3,-96.47 -43.3,-66.21
  region: -43.17,66.87 -43.17,97.13 -55.17,97.13 -55.17,66.87
  region: -23.48,66.87 -23.48,97.13 -35.48,97.13 -35.48,66.87
  region: -3.45,66.55 -3.45,97.45 -15.45,97.45 -15.45,66.55
  region: 16.38,66.38 16.38,97.62 4.38,97.62 4.38,66.38
  region: 36,67 36,97 24,97 24,67
  region: 56,67 56,97 44,97 44,67
Top Solder:
  rectangle: -19.68,-19.68 20,20
Mechanical 2:
  text ">NAME" at -96.46,111 h77.5
Mechanical 4:
  text ">VALUE" at -98.43,-163.39 h77.5

## QFN-24_ALT2 [mil]
pads (25):
  rect 36x12 smd: 1(-80.71,50) 2(-80.71,30) 3(-80.71,10) 4(-80.71,-9.84) 5(-80.71,-29.53) 6(-80.71,-49.21) 13(77,-49.21) 14(77,-29.53) 15(77,-9.84) 16(77,10) 17(77,30) 18(77,50)
  rect 12x36 smd: 7(-49.21,-80.71) 8(-29.53,-80.71) 9(-9.84,-80.71) 10(10,-80.71) 11(30,-80.71) 12(50,-80.71) 19(50,81) 20(30,81) 21(10,81) 22(-9.84,81) 23(-29.53,81) 24(-49.21,81)
  rect 83x83 smd: EP(0,0)
Top Overlay:
  lines w5: -78.74,-62.99 -78.74,-78.74 -62.99,-78.74 ; -78.74,63 -62.99,79 ; 63,-78.74 79,-78.74 79,-62.99 ; 63,79 79,79 79,63
Mechanical 16:
  lines w5: -78.74,-78.74 -78.74,79 79,79 79,-78.74 -78.74,-78.74